# Altium schematic symbol library TPS22919.Schlib: 1 symbol
Pins are listed as number, name and electrical type; pins without a type are passive.

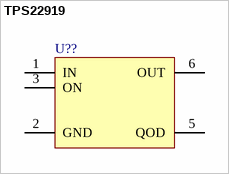
[diagram p0: symbol TPS22919]

## TPS22919
designator U??
pins: 1 IN, 2 GND, 3 ON, 5 QOD, 6 OUT